# Altium footprint library ALTAIR_PD_Relays.PcbLib: 2 footprints
Each footprint in its own frame and in the unit in brackets; x right, y up, seen from the top. Pads: shape width x height; smd on the part's side, far side on the other; paste and mask are expansions set on the pad; w line width, h text height; cw(c..) or ccw(c..) is an arc to the next point about the centre after c.
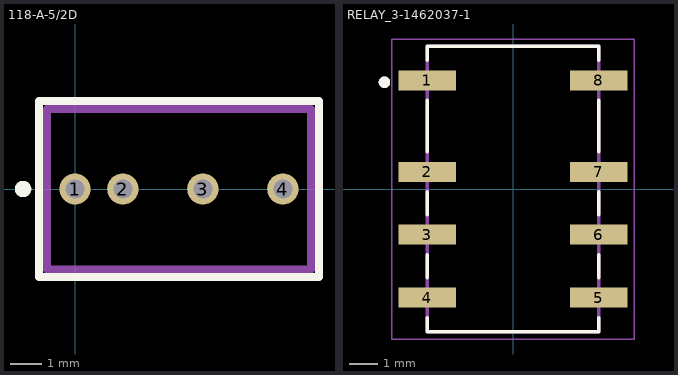
[diagram p0: the footprints below, top view; thin cyan lines are the x and y axes]

## 118-A-5/2D [mm]
pads (4):
  round 1 hole 0.6: 1(0,0) 2(1.52,0) 3(4.06,0) 4(6.6,0)
Top Overlay:
  circle w0.27: c-1.651,0 r0.127
  lines w0.254: -1.143,-2.794 7.747,-2.794 7.747,2.794 -1.143,2.794 -1.143,-2.794
Mechanical 1:
  lines w0.25: -0.889,-2.56 7.491,-2.56 ; -0.889,2.54 7.491,2.54
  lines w0.254: -0.889,-2.56 -0.889,2.54 ; 7.491,-2.56 7.491,2.54
3D body "118-1-A.STEP": height 14.73, standoff -3.68, extent -0.763,-2.4 7.367,2.4

## RELAY_3-1462037-1 [mm]
height 5.65
pads (8):
  rect 2x0.7 smd paste+0 mask+0.102: 1(-3,3.8) 2(-3,0.6) 3(-3,-1.6) 4(-3,-3.8) 5(3,-3.8) 6(3,-1.6) 7(3,0.6) 8(3,3.8)
Top Overlay:
  circle w0.2: c-4.5,3.736 r0.1
  lines w0.127: -3,-4.5 -3,-5 3,-5 3,-4.5 ; -3,-3.1 -3,-2.3 ; -3,-0.9 -3,-0.1 ; -3,1.3 -3,3.1 ; -3,4.5 -3,5 3,5 3,4.5 ; 3,-3.1 3,-2.3 ; 3,-0.9 3,-0.1 ; 3,1.3 3,3.1
Mechanical 13:
  circle w0.2: c-4.5,3.736 r0.1
  lines w0.127: -3,-5 -3,5 3,5 3,-5 -3,-5
Mechanical 15:
  lines w0.05: -4.25,-5.25 -4.25,5.25 4.25,5.25 4.25,-5.25 -4.25,-5.25
3D body "step_temp.STEP": height 5.66, standoff 0.01, extent -3.75,-5 3.751,5